# Altium footprint library Port_Footprints.PcbLib: 1 footprints
Each footprint in its own frame and in the unit in brackets; x right, y up, seen from the top. Pads: shape width x height; smd on the part's side, far side on the other; paste and mask are expansions set on the pad; w line width, h text height; cw(c..) or ccw(c..) is an arc to the next point about the centre after c.
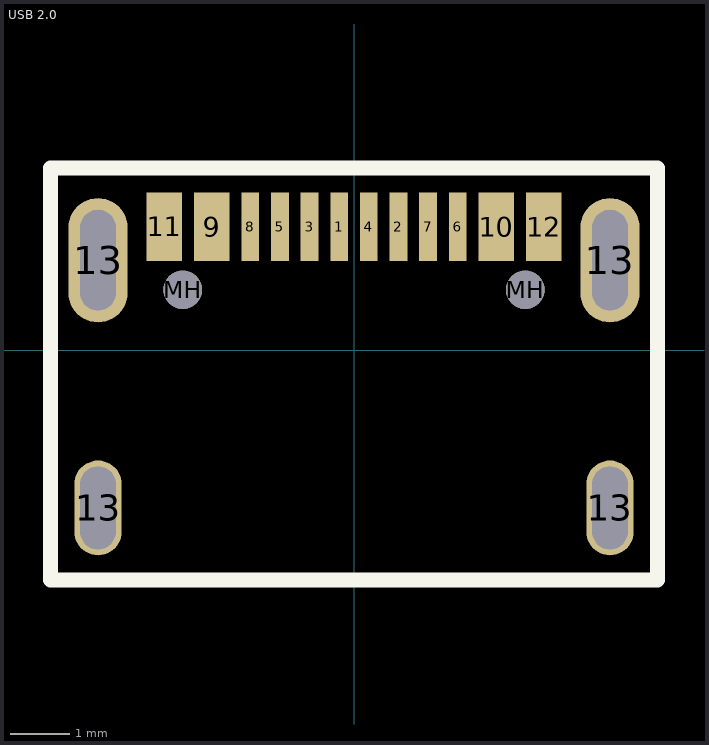
[diagram p0: the footprint, top view; thin cyan lines are the x and y axes]

## USB 2.0 [mm] "UJ20-C-H-G-SMT-1-P16-TR"
pads (18):
  rect 0.3x1.15 smd mask+0.05: 1(-0.25,2.085) 2(0.75,2.085) 3(-0.75,2.085) 4(0.25,2.085) 5(-1.25,2.085) 6(1.75,2.085) 7(1.25,2.085) 8(-1.75,2.085)
  rect 0.6x1.15 smd mask+0.05: 9(-2.4,2.085) 10(2.4,2.085) 11(-3.2,2.085) 12(3.2,2.085)
  oval 0.8x1.6 hole 0.6 slot 1.4 at 90 deg: 13(-4.32,-2.66) 13(4.32,-2.66)
  rrect100% 1x2.1 hole 0.6 slot 1.7 at 90 deg: 13(-4.32,1.52) 13(4.32,1.52)
  round 0.65 hole 0.65 unplated: MH(-2.89,1.02) MH(2.89,1.02)
Top Overlay:
  lines w0.254: -5.125,-3.875 5.125,-3.875 5.125,3.075 -5.125,3.075 -5.125,-3.875
Mechanical 1:
  text ".Designator" at 0.1,0.323 h0.67
3D body "Same_Sky_UJ20-C-H-G-SMT-1-P16-TR.step": height 3.17, standoff -0.99, extent -4.465,-5.199 4.475,2.399